# EAGLE library part UPDUINO2P1SEMIPOP (library StarLiteLib)
UPduino v2.1 Board
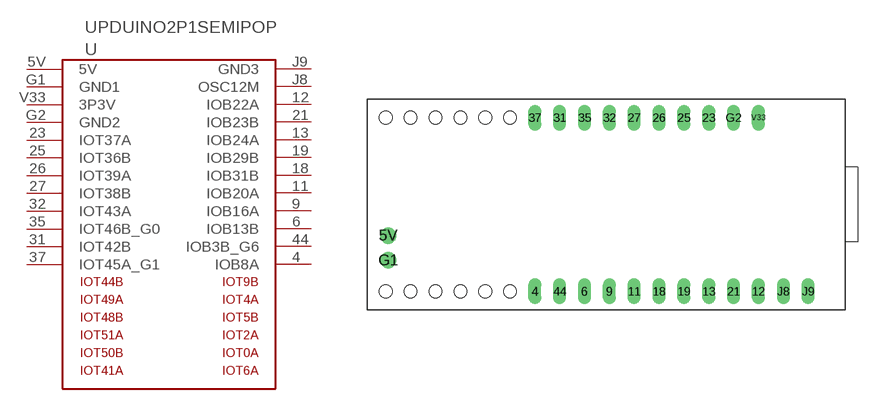
[diagram p4: symbol with the pads of UPDUINO2P1SEMIPOP; footprint UPDUINO2P1SEMIPOP]

Designator prefix -

## UPDUINO2P1SEMIPOP  [UPDUINO2P1SEMIPOP]
4  IOB8A
5V  5V  pwr
6  IOB13B
9  IOB16A
11  IOB20A
12  IOB22A
13  IOB24A
18  IOB31B
19  IOB29B
21  IOB23B
23  IOT37A
25  IOT36B
26  IOT39A
27  IOT38B
31  IOT42B
32  IOT43A
35  IOT46B_G0
37  IOT45A_G1
44  IOB3B_G6
G1  GND1  pwr
G2  GND2  pwr
J8  OSC12M
J9  GND3  pwr
V33  3P3V  pwr

## Footprint UPDUINO2P1SEMIPOP (pad centres in mm)
Dual In Line Package 0.7 inch
drill 0.813 long: 4 -8.89,-7.62; 6 -3.81,-7.62; 9 -1.27,-7.62; 11 1.27,-7.62; 12 13.97,-7.62; 13 8.89,-7.62; 18 3.81,-7.62; 19 6.35,-7.62; 21 11.43,-7.62; 23 8.89,10.16; 25 6.35,10.16; 26 3.81,10.16; 27 1.27,10.16; 31 -6.35,10.16; 32 -1.27,10.16; 35 -3.81,10.16; 37 -8.89,10.16; 44 -6.35,-7.62; G2 11.43,10.16; J8 16.51,-7.62; J9 19.05,-7.62; V33 13.97,10.16
drill 0.813 pad 1.676: 5V -23.876,-1.905; G1 -23.876,-4.445